# EAGLE library part PMOS2 (library zetex)
DUAL 30V P-CHANNEL ENHANCEMENT MODE MOSFET Source: Data sheet <http://www.diodes.com/datasheets/ZXMP3A16DN8.pdf> SOP8 Source: Data sheet <http://www.diodes.com/datasheets/ZXMD63P03X.pdf> MSOP8
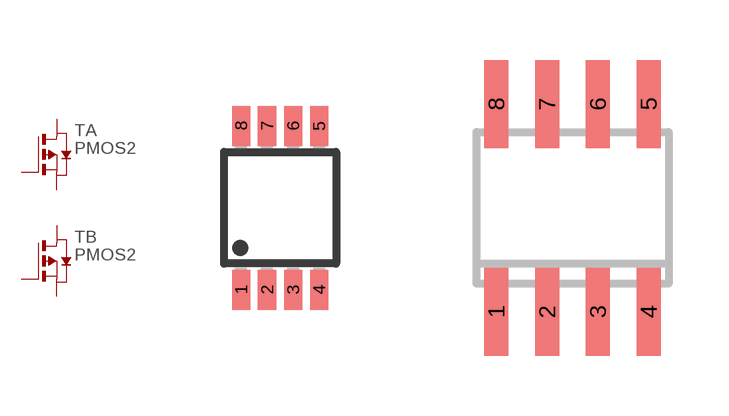
[diagram p12: symbol with the pads of MSOP8; footprints MSOP8, SO8]

Designator prefix T; gates A=P_MOSFET B=P_MOSFET

## PMOS2MSOP8 (OC_FARNELL: 1412091; OC_NEWARK: unknown)  [MSOP8]
1  A:S  pas
2  A:G  pas
3  B:S  pas
4  B:G  pas
5  B:D  pas
6  B:D  pas
7  A:D  pas
8  A:D  pas

## PMOS2SO8 (OC_FARNELL: unknown; OC_NEWARK: unknown)  [SO8]
Pads as for MSOP8

## Footprint MSOP8 (pad centres in mm)
Micro Small Outline Package
smd 0.45 x 1: 1 -0.975,-2.05; 2 -0.325,-2.05; 3 0.325,-2.05; 4 0.975,-2.05; 5 0.975,2.05; 6 0.325,2.05; 7 -0.325,2.05; 8 -0.975,2.05

## Footprint SO8 (pad centres in mm)
SMALL OUTLINE INTEGRATED CIRCUIT SOP-8L Source: http://www.diodes.com/datasheets/ds31262.pdf
smd 0.6 x 2.2: 1 -1.905,-2.6; 2 -0.635,-2.6; 3 0.635,-2.6; 4 1.905,-2.6; 5 1.905,2.6; 6 0.635,2.6; 7 -0.635,2.6; 8 -1.905,2.6